# EAGLE library part AS5304 (library MouseLib)
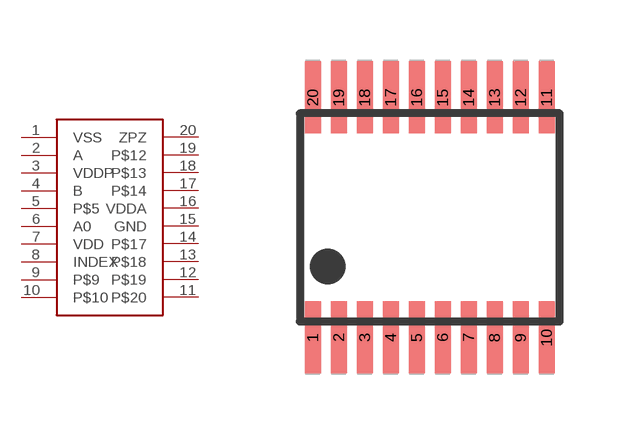
[diagram p7: symbol with the pads of SSOP20; footprint SSOP20]

Designator prefix -

## AS5304  [SSOP20]
1  VSS
2  A
3  VDDP
4  B
5  P$5
6  A0
7  VDD
8  INDEX
9  P$9
10  P$10
11  P$20
12  P$19
13  P$18
14  P$17
15  GND
16  VDDA
17  P$14
18  P$13
19  P$12
20  ZPZ

## Footprint SSOP20 (pad centres in mm)
smd 0.4 x 1.8: 1 -2.925,-3; 2 -2.275,-3; 3 -1.625,-3; 4 -0.975,-3; 5 -0.325,-3; 6 0.325,-3; 7 0.975,-3; 8 1.625,-3; 9 2.275,-3; 10 2.925,-3; 11 2.925,3; 12 2.275,3; 13 1.625,3; 14 0.975,3; 15 0.325,3; 16 -0.325,3; 17 -0.975,3; 18 -1.625,3; 19 -2.275,3; 20 -2.925,3